# Altium schematic symbol library DS1631AU.SchLib: 1 symbol
Pins are listed as number, name and electrical type; pins without a type are passive.

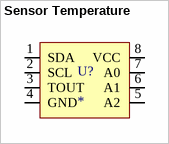
[diagram p0: symbol Sensor Temperature]

## Sensor Temperature
designator U?
Sensor I2C Temperature; Digi-Key Part Number: DS1631AU+CT-ND
footprint 8TSSOP (Sensor Temperature 8TSSOP, 8-MSOP)
pins: 1 SDA, 2 SCL, 3 TOUT, 4 GND, 5 A2, 6 A1, 7 A0, 8 VCC